# EAGLE library part 28P (library con-dg55)
DEGSON DG55 CONNECTOR
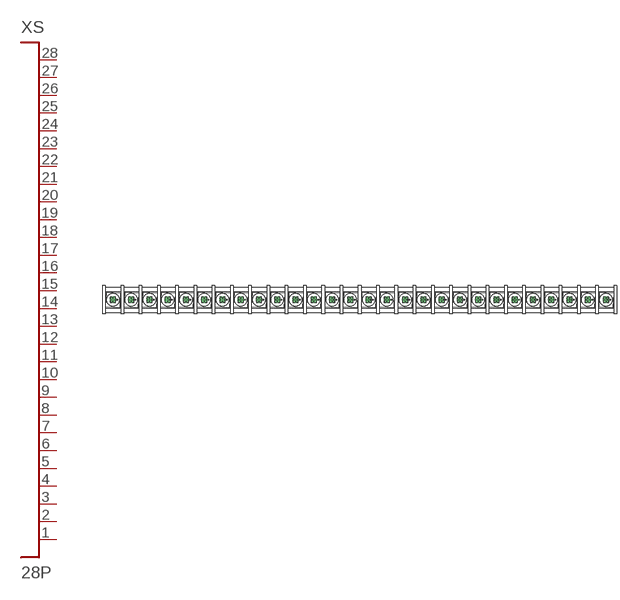
[diagram p22: symbol with the pads of DG55CB-28P-1; footprint DG55CB-28P-1]

Designator prefix XS

## 28P  [DG55CB-28P-1]
1  P$1
2  P$2
3  P$3
4  P$4
5  P$5
6  P$6
7  P$7
8  P$8
9  P$9
10  P$10
11  P$11
12  P$12
13  P$13
14  P$14
15  P$15
16  P$16
17  P$17
18  P$18
19  P$19
20  P$20
21  P$21
22  P$22
23  P$23
24  P$24
25  P$25
26  P$26
27  P$27
28  P$28

## Footprint DG55CB-28P-1 (pad centres in mm)
DG55
drill 1.8 pad 3.6: 1 -135,0; 2 -125,0; 3 -115,0; 4 -105,0; 5 -95,0; 6 -85,0; 7 -75,0; 8 -65,0; 9 -55,0; 10 -45,0; 11 -35,0; 12 -25,0; 13 -15,0; 14 -5,0; 15 5,0; 16 15,0; 17 25,0; 18 35,0; 19 45,0; 20 55,0; 21 65,0; 22 75,0; 23 85,0; 24 95,0; 25 105,0; 26 115,0; 27 125,0; 28 135,0